# EAGLE library part NX3DV221 (library nxp_60_1_1)
High-speed USB 2.0 switch with enable
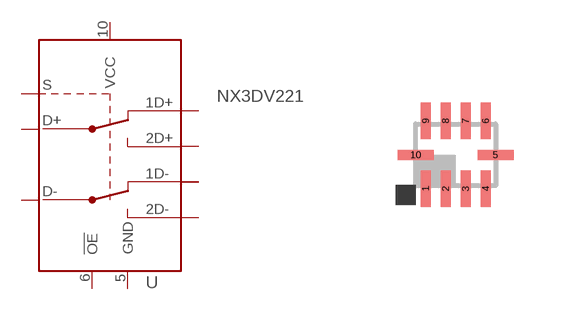
[diagram p72: symbol with the pads of SOT1049; footprint SOT1049]

Designator prefix U

## NX3DV221GM  [SOT1049]
1  1D+  out
2  1D-  out
3  2D+  out
4  2D-  out
5  GND  out
6  !OE!  out
7  D-  out
8  D+  out
9  S  out
10  VCC  out

## Footprint SOT1049 (pad centres in mm)
SOT1049 XQFN10U: plastic extremely thin quad flat package; no leads; 10 terminals; UTLP based; body 2 x 1.55 x 0.5 mm JEDEC: MO-255 IEC: --
smd 0.25 x 0.9: 1 -0.75,-0.85; 2 -0.25,-0.85; 3 0.25,-0.85; 4 0.75,-0.85; 6 0.75,0.85; 7 0.25,0.85; 8 -0.25,0.85; 9 -0.75,0.85
smd 0.9 x 0.25: 5 1,0; 10 -1,0